# EAGLE library part PIC16F1789 (library PIC16F1789)
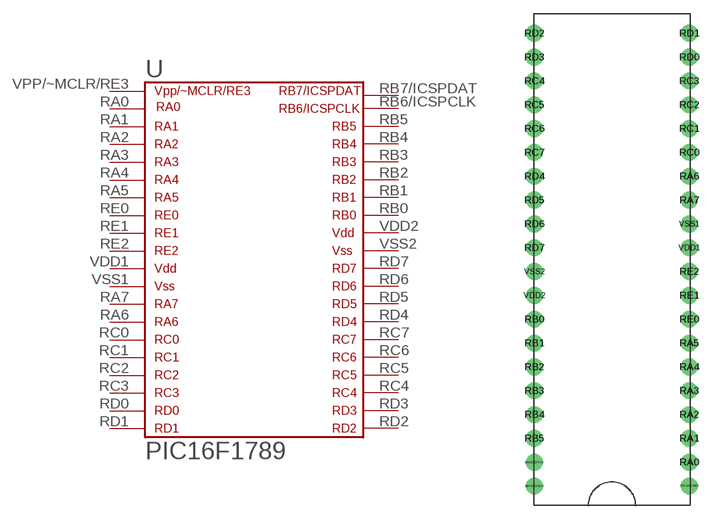
[diagram p0: symbol with the pads of PIC16F1789; footprint PIC16F1789]

Designator prefix U

## PIC16F1789  [PIC16F1789]
RA0  RA0
RA1  RA1
RA2  RA2
RA3  RA3
RA4  RA4
RA5  RA5
RA6  RA6
RA7  RA7
RB0  RB0
RB1  RB1
RB2  RB2
RB3  RB3
RB4  RB4
RB5  RB5
RB6/ICSPCLK  RB6/ICSPCLK
RB7/ICSPDAT  RB7/ICSPDAT
RC0  RC0
RC1  RC1
RC2  RC2
RC3  RC3
RC4  RC4
RC5  RC5
RC6  RC6
RC7  RC7
RD0  RD0
RD1  RD1
RD2  RD2
RD3  RD3
RD4  RD4
RD5  RD5
RD6  RD6
RD7  RD7
RE0  RE0
RE1  RE1
RE2  RE2
VDD1  VDD1
VDD2  VDD2
VPP/~MCLR/RE3  VPP/~MCLR/RE3
VSS1  VSS1
VSS2  VSS2

## Footprint PIC16F1789 (pad centres in mm)
Jest to mikrokontroler PIC16F1789
drill 0.8 pad 1.8: RA0 8.32,-21.76; RA1 8.32,-19.2; RA2 8.32,-16.64; RA3 8.32,-14.08; RA4 8.32,-11.52; RA5 8.32,-8.96; RA6 8.32,8.96; RA7 8.32,6.4; RB0 -8.32,-6.4; RB1 -8.32,-8.96; RB2 -8.32,-11.52; RB3 -8.32,-14.08; RB4 -8.32,-16.64; RB5 -8.32,-19.2; RB6/ICSPCLK -8.32,-21.76; RB7/ICSPDAT -8.32,-24.32; RC0 8.32,11.52; RC1 8.32,14.08; RC2 8.32,16.64; RC3 8.32,19.2; RC4 -8.32,19.2; RC5 -8.32,16.64; RC6 -8.32,14.08; RC7 -8.32,11.52; RD0 8.32,21.76; RD1 8.32,24.32; RD2 -8.32,24.32; RD3 -8.32,21.76; RD4 -8.32,8.96; RD5 -8.32,6.4; RD6 -8.32,3.84; RD7 -8.32,1.28; RE0 8.32,-6.4; RE1 8.32,-3.84; RE2 8.32,-1.28; VDD1 8.32,1.28; VDD2 -8.32,-3.84; VPP/~MCLR/RE3 8.32,-24.32; VSS1 8.32,3.84; VSS2 -8.32,-1.28